# Altium schematic symbol library IRLML0040.SchLib: 1 symbol
Pins are listed as number, name and electrical type; pins without a type are passive.

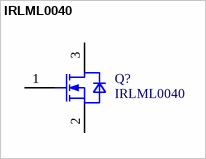
[diagram p0: symbol IRLML0040]

## IRLML0040
designator Q?
Insulated-Gate Field-Effect Transistor (IGFET), N-Channel, Enhancement, Body Diode, Pin 1 Gate, 2 Source, 3 Drain, 3 Pins; Manufacturer: Infineon Technologies; Manufacturer Order Number: IRLML0040; PackageReference: PG-SOT23-3-901
pins: 1 GATE, 2 SOURCE, 3 DRAIN